# Altium footprint library Conn_JST_B3B-PH-SM4-TB_LF_SN_eec_0.PcbLib: 1 footprints
Each footprint in its own frame and in the unit in brackets; x right, y up, seen from the top. Pads: shape width x height; smd on the part's side, far side on the other; paste and mask are expansions set on the pad; w line width, h text height; cw(c..) or ccw(c..) is an arc to the next point about the centre after c.
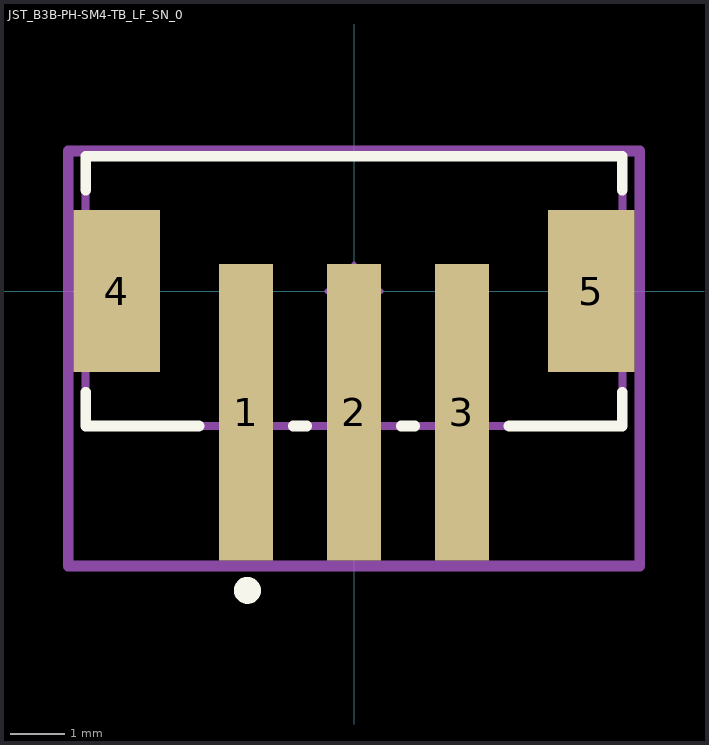
[diagram p0: the footprint, top view; thin cyan lines are the x and y axes]

## JST_B3B-PH-SM4-TB_LF_SN_0 [mm]
pads (5):
  rect 1x5.5 smd paste+0 mask+0: 1(-2,-2.25) 2(0,-2.25) 3(2,-2.25)
  rect 1.6x3 smd paste+0 mask+0: 4(-4.4,0) 5(4.4,0)
Top Overlay:
  circle w0.25: c-1.975,-5.55 r0.125
  lines w0.2: -4.975,-1.875 -4.975,-2.5 -2.875,-2.5 ; -4.975,1.875 -4.975,2.5 4.975,2.5 4.975,1.875 ; -1.125,-2.5 -0.875,-2.5 ; 0.875,-2.5 1.125,-2.5 ; 2.875,-2.5 4.975,-2.5 4.975,-1.875
Mechanical 10:
  lines w0.2: -5.3,-5.1 5.3,-5.1 5.3,2.6 -5.3,2.6 -5.3,-5.1
  text ".Designator" at 0,-1.25 h1
Mechanical 12:
  lines w0.15: -4.975,-2.5 4.975,-2.5 4.975,2.5 -4.975,2.5 -4.975,-2.5
Mechanical 15:
  lines w0.1: -0.5,0 0.5,0 ; 0,-0.5 0,0.5
  lines w0.2: -5.3,-5.1 5.3,-5.1 5.3,2.6 -5.3,2.6 -5.3,-5.1
3D body "Conn_JST_B3B-PH-SM4-TB_LF_SN_eec.STEP": height 0.25, standoff 0, extent -5.3,-5.1 5.3,2.6